# EAGLE library part PCA9675 (library PortExpanders)
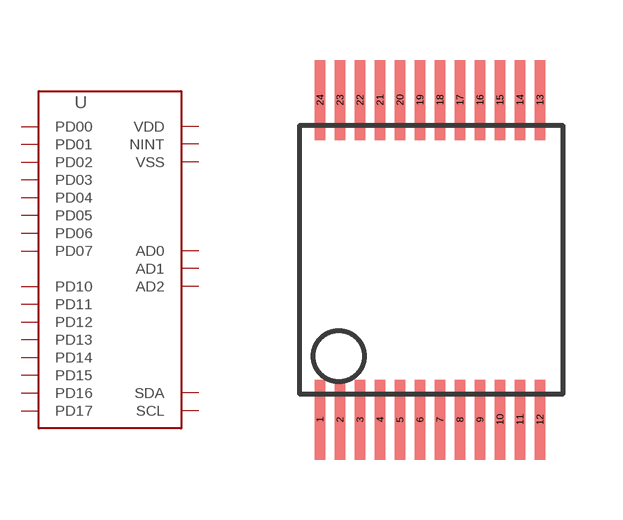
[diagram p1: symbol with the pads of TSSOP24; footprint TSSOP24]

Designator prefix -

## PCA9675TSSOP24  [TSSOP24]
1  NINT
2  AD1
3  AD2
4  PD00
5  PD01
6  PD02
7  PD03
8  PD04
9  PD05
10  PD06
11  PD07
12  VSS
13  PD10
14  PD11
15  PD12
16  PD13
17  PD14
18  PD15
19  PD16
20  PD17
21  AD0
22  SCL
23  SDA
24  VDD

## Footprint TSSOP24 (pad centres in mm)
smd 0.254 x 2: 1 -2.69,-4; 2 -2.19,-4; 3 -1.69,-4; 4 -1.19,-4; 5 -0.69,-4; 6 -0.19,-4; 7 0.31,-4; 8 0.81,-4; 9 1.31,-4; 10 1.81,-4; 11 2.31,-4; 12 2.81,-4; 13 2.81,4; 14 2.31,4; 15 1.81,4; 16 1.31,4; 17 0.81,4; 18 0.31,4; 19 -0.19,4; 20 -0.69,4; 21 -1.19,4; 22 -1.69,4; 23 -2.19,4; 24 -2.69,4